# EAGLE library part VREG-RTEC6150 (library Airbeam)
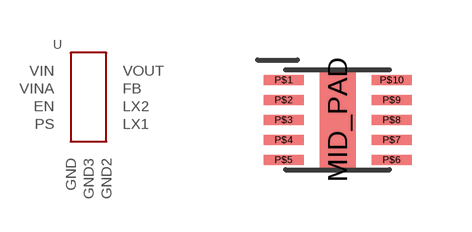
[diagram p2: symbol with the pads of WFDFN-10; footprint WFDFN-10]

Designator prefix -

## VREG-RTEC6150 (PARTNO: RT6150BGQW)  [WFDFN-10]
MID_PAD  GND3
P$1  VOUT
P$2  LX2
P$3  GND
P$4  LX1
P$5  VIN
P$6  EN
P$7  PS
P$8  VINA
P$9  GND2
P$10  FB

## Footprint WFDFN-10 (pad centres in mm)
smd 0.9 x 2.6: MID_PAD 0,0
smd 1 x 0.25: P$1 -1.35,1; P$2 -1.35,0.5; P$3 -1.35,0; P$4 -1.35,-0.5; P$5 -1.35,-1; P$6 1.35,-1; P$7 1.35,-0.5; P$8 1.35,0; P$9 1.35,0.5; P$10 1.35,1